# Altium footprint library Fuse.PcbLib: 9 footprints
Each footprint in its own frame and in the unit in brackets; x right, y up, seen from the top. Pads: shape width x height; smd on the part's side, far side on the other; paste and mask are expansions set on the pad; w line width, h text height; cw(c..) or ccw(c..) is an arc to the next point about the centre after c.
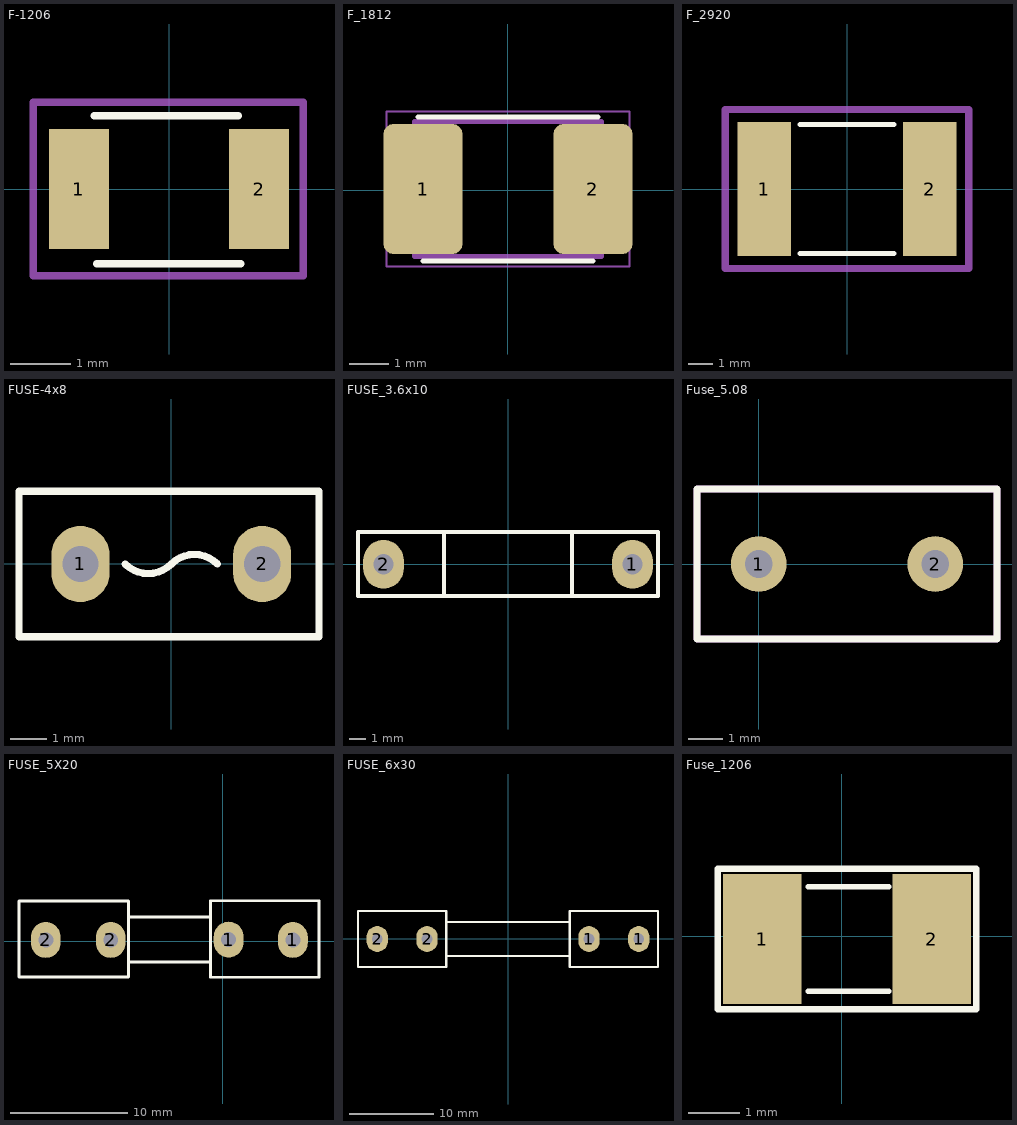
[diagram p0: the footprints below, top view; thin cyan lines are the x and y axes]

## F-1206 [mm]
pads (2):
  rect 1x2 smd: 1(-1.5,0) 2(1.5,0)
Top Overlay:
  lines w0.127: -1.245,1.219 1.155,1.219 ; -1.206,-1.245 1.194,-1.245
Mechanical 13:
  lines w0.127: -2.261,-1.448 2.235,-1.448 2.235,1.448 -2.261,1.448 -2.261,-1.448
  text ".Designator" at -0.051,-0.102 h0.76
Mechanical 15:
  lines w0.127: -2.261,-1.448 2.235,-1.448 2.235,1.448 -2.261,1.448 -2.261,-1.448
  text ".Comment" at -0.025,-0.102 h0.76
3D body: height 0.5, standoff 0, extent -0.635,-1.27 0.635,1.27
3D body: height 0.5, standoff 0, extent 0.635,-1.27 1.397,1.27
3D body: height 0.5, standoff 0, extent -1.397,-1.27 -0.635,1.27

## F_1812 [mm]
pads (2):
  rrect25% 2x3.29 smd: 1(-2.146,0.031) 2(2.154,0.031)
Top Overlay:
  lines w0.127: -2.276,1.856 2.284,1.856 ; -2.146,-1.794 2.154,-1.794
Mechanical 13:
  lines w0.127: -2.366,-1.679 -2.366,1.741 2.374,1.741 2.374,-1.679 -2.366,-1.679
Mechanical 15:
  lines w0.05: -3.066,-1.929 -3.066,1.991 3.074,1.991 3.074,-1.929 -3.066,-1.929
3D body "step_temp.STEP": height 1.25, standoff 0, extent -2.271,-1.589 2.279,1.651

## F_2920 [mm]
height 0.6
pads (2):
  rect 2.22x5.56 smd: 1(-3.44,0) 2(3.44,0)
Top Overlay:
  lines w0.2: -1.95,-2.68 1.95,-2.68 ; -1.95,2.68 1.95,2.68
Mechanical 13:
  lines w0.2: -5.05,-3.3 5.05,-3.3 5.05,3.3 -5.05,3.3 -5.05,-3.3
  text ".Designator" at -3.683,-0.381 h1.5
Mechanical 15:
  lines w0.3: -5.05,-3.3 -5.05,3.302 5.05,3.302 5.05,-3.3 -5.05,-3.3
  text ".Comment" at -3.302,-0.381 h1.5
3D body "0ZCF.step": height 1.15, standoff 0, extent -3.988,-2.72 3.988,2.72

## FUSE-4x8 [mm]
height 5.08
pads (2):
  oval 1.6x2.1 hole 1: 1(-2.5,0) 2(2.5,0)
Top Overlay:
  lines w0.2: -1.27,0 ccw(c-0.635,0.635) 0,0 cw(c0.635,-0.635) 1.27,0 ; -4.191,-2 -4.191,2 4.064,2 4.064,-2 -4.191,-2
3D body: height 9, standoff 0.5, extent -4.064,-1.905 3.937,2.032

## FUSE_3.6x10 [mil]
pads (2):
  oval 100x120 hole 50: 1(307.09,-0.87) 2(-307.09,-0.87)
Top Overlay:
  lines w10: -157.48,-78.74 -157.48,78.74 ; 157.48,-78.74 157.48,78.74 ; -370,-78.74 370,-78.74 370,78.74 -370,78.74 -370,-78.74
3D body "3F.step": height 204.73, standoff -133.86, extent -307.09,-71.73 307.09,70

## Fuse_5.08 [mm]
pads (2):
  round 1.6 hole 0.8: 1(0,0) 2(5.08,0)
Top Overlay:
  lines w0.2: -1.778,-2.159 -1.778,2.159 6.858,2.159 6.858,-2.159 -1.778,-2.159
Mechanical 13:
  lines w0.2: -1.778,-2.159 6.858,-2.159 6.858,2.159 -1.778,2.159 -1.778,-2.159
  text ".Designator" at 0.889,-0.177 h1
Mechanical 15:
  lines w0.2: -1.778,-2.159 6.858,-2.159 6.858,2.159 -1.778,2.159 -1.778,-2.159
  text ".Comment" at 1.016,-0.177 h1
3D body "RSTA.stp": height 8.1, standoff -4.67, extent -1.791,-2.159 6.871,2.133

## FUSE_5X20 [mil]
pads (4):
  oval 100x120 hole 50: 1(20,5) 1(235,3.62) 2(-592.56,3.62) 2(-375,3.62)
Top Overlay:
  lines w10: -315,-70 -40,-70 ; -310,80 -40,80 ; -682.32,-120 -315,-120 -315,133.54 -682.32,133.54 -682.32,-120 ; -40,-121.3 322.68,-121.3 322.68,135 -40,135 -40,-121.3

## FUSE_6x30 [mil]
height 200
pads (4):
  oval 100x120 hole 50: 1(375.63,-1.38) 1(607.91,-1.38) 2(-612.56,-1.38) 2(-380.28,-1.38)
Top Overlay:
  lines w10: -287.32,-80.12 282.68,-80.12 ; -287.32,77.36 282.68,77.36 ; -702.32,-131.3 -290.51,-131.3 -290.51,128.54 -702.32,128.54 -702.32,-131.3 ; 285.87,-131.3 697.68,-131.3 697.68,128.54 285.87,128.54 285.87,-131.3
3D body "CircuitWorks-FUSE.step": height 356.09, standoff -149.7, extent -610.2,-117.61 605.55,114.86

## Fuse_1206 [mil]
pads (2):
  rect 60x100 smd: 1(-61,-2) 2(69,-2)
Top Overlay:
  lines w4: -26,-42 36,-42 ; -26,38 36,38
  lines w5: -95,-56 103,-56 103,52 -95,52 -95,-56
3D body "User Library-Fuse1210.STEP": height 26.57, standoff 0, extent -54.28,-52.68 72.29,48.69